# Altium schematic symbol library DCDC Linear Regulators.SchLib: 4 symbols
Pins are listed as number, name and electrical type; pins without a type are passive.

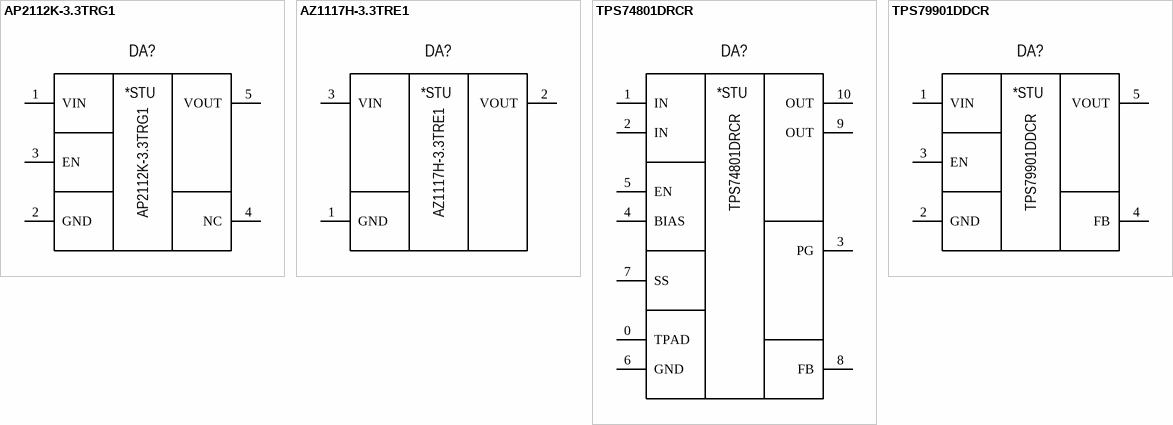
[diagram p0: symbols AP2112K-3.3TRG1 to TPS79901DDCR]

## AP2112K-3.3TRG1
designator DA?
DCDC Lin Reg 0.6A 3.3V(6V); Manufacturer: Diodes Incorporated; Group: Power; Voltage dropout: 0.4V/600mA; Current: 600mA; Component: DCDC Linear; Package: SOT-25; Part name: AP2112K-3.3TRG1; Voltage input: 6V; Operating temperature: -40°C +80°C; Voltage output: 3.3V; Height: 1.20mm; Dimension: 3.00mm x 2.80mm; Mounting type: Surface mount
footprint SOT-25
pins: 1 VIN "Input voltage", 2 GND "Ground pin", 3 EN, 4 NC, 5 VOUT "Output voltage"
text: *STU

## AZ1117H-3.3TRE1
designator DA?
DCDC Lin Reg 1.0A 3.3V(15V); Manufacturer: Diodes Incorporated; Group: Power; Voltage dropout: 1.25V/1A; Current: 1A; Component: DCDC Linear; Package: SOT-223; Part name: AZ1117H-3.3TRE1; Voltage input: 15V; Operating temperature: -40°C +125°C; Voltage output: 3.3V; Dimension: 6.70mm x 7.30mm; Height: 1.80mm; Mounting type: Surface mount
footprint SOT-223
pins: 1 GND "Ground pin", 2 VOUT "Output voltage", 3 VIN "Input voltage"
text: *STU

## TPS74801DRCR
designator DA?
DCDC Lin Reg 1.5A ADJ(5.5V); Manufacturer: Texas Instruments; Group: Power; Voltage dropout: 0.16V/1.5A; Voltage output: Adjustable; Component: DCDC Linear; Package: VSON-10 (3x3); Part name: TPS74801DRCR; Voltage input: 5.5V; Current: 1.5A; Operating temperature: -40°C +125°C; Height: 1.00mm; Dimension: 3.00mm x 3.00mm; Mounting type: Surface mount
footprint VSON-10 (3x3)
pins: 0 TPAD "Must be soldered to the ground plane for increased thermal performance. Internally  connected to ground.", 1 IN "Input to the device. A 1-µF or larger input capacitor is recommended for optimal  performance.", 2 IN "Input to the device. A 1-µF or larger input capacitor is recommended for optimal  performance.", 3 PG "Soft-Start pin. A capacitor connected on this pin to ground sets the start-up time. If this  pin is left unconnected, the regulator output soft-start ramp time is typically 200 μs.", 4 BIAS "Bias input voltage for error amplifier, reference, and internal control circuits. A 1-µF or  larger input capacitor is recommended for optimal performance. If IN is connected to  BIAS, a 4.7-µF or larger capacitor must be used.", 5 EN "Enable pin. Driving this pin high enables the regulator. Driving this pin low puts the  regulator into shutdown mode. This pin must not be left unconnected.", 6 GND "Ground pin", 7 SS "Soft-Start pin. A capacitor connected on this pin to ground sets the start-up time. If this  pin is left floating, the regulator output soft-start ramp time is typically 200 s.", 8 FB "Feedback pin. The feedback connection to the center tap of an external resistor  divider network that sets the output voltage. This pin must not be left floating.", 9 OUT "Regulated output voltage. A small capacitor (total typical capacitance ≥ 2.2 μF,  ceramic) is needed from this pin to ground to assure stability.", 10 OUT "Regulated output voltage. A small capacitor (total typical capacitance ≥ 2.2 μF,  ceramic) is needed from this pin to ground to assure stability."
text: *STU

## TPS79901DDCR
designator DA?
DCDC Lin Reg 0.2A ADJ(6.5V); Manufacturer: Texas Instruments; Group: Power; Voltage dropout: 0.18V/200mA; Current: 200mA; Voltage output: Adjustable; Component: DCDC Linear; Package: SOT-25; Part name: TPS79901DDCR; Voltage input: 6.5V; Operating temperature: -40°C +125°C; Height: 1.10mm; Dimension: 3.00mm x 2.80mm; Mounting type: Surface mount
footprint SOT-25
pins: 1 VIN "Input supply.", 2 GND "Ground pin", 3 EN "Driving this pin high turns on the regulator. Driving this pin low puts the regulator into shutdown mode. EN can be connected to IN if not used.", 4 FB "Adjustable voltage version only. Feedback; this pin is the input to the control loop error amplifier, and sets the output voltage of the device.", 5 VOUT "Output of the regulator. To assure stability, a small ceramic capacitor (total typical capacitance ≥ 2 μF) is required from this pin to ground."
text: *STU